# Altium footprint library PCB - CAPACITOR - ALUMINIUM - CAP ALSMD ELEC 4.3MM H3.95MM.pcblib: 1 footprints
Each footprint in its own frame and in the unit in brackets; x right, y up, seen from the top. Pads: shape width x height; smd on the part's side, far side on the other; paste and mask are expansions set on the pad; w line width, h text height; cw(c..) or ccw(c..) is an arc to the next point about the centre after c.
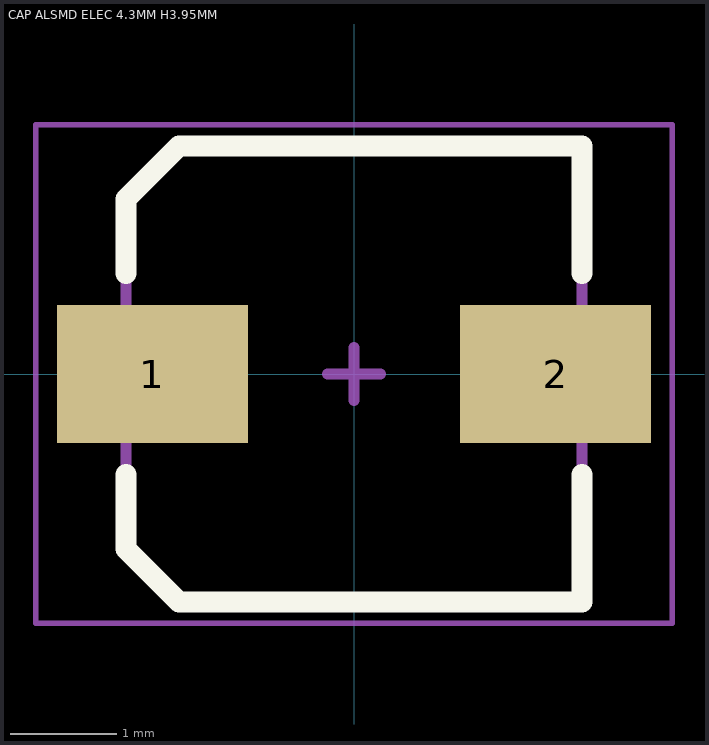
[diagram p0: the footprint, top view; thin cyan lines are the x and y axes]

## CAP ALSMD ELEC 4.3MM H3.95MM [mm] "Aluminum SMD Electrolytic Capacitor, 4.30mm Land Size, 4.00mm Diameter, 3.95mm Height, 4.60mm Maximum Leads Span"
height 0.65
pads (2):
  rect 1.8x1.3 smd: 1(-1.9,0) 2(1.9,0)
Top Overlay:
  lines w0.2: -2.15,-0.95 -2.15,-1.65 -1.65,-2.15 2.15,-2.15 2.15,-0.95 ; -2.15,0.95 -2.15,1.65 -1.65,2.15 2.15,2.15 2.15,0.95
Mechanical 13:
  lines w0.1: -2.15,-1.65 -2.15,1.65 -1.65,2.15 2.15,2.15 2.15,-2.15 -1.65,-2.15 -2.15,-1.65
Mechanical 15:
  lines w0.05: -3,-2.35 -3,2.35 3,2.35 3,-2.35 -3,-2.35
  lines w0.1: -0.25,0 0.25,0 ; 0,-0.25 0,0.25
3D body: height 3.95, standoff 0, extent -2.3,-2.15 2.3,2.15